# Altium footprint library COM-MAIN.PcbLib: 5 footprints
Each footprint in its own frame and in the unit in brackets; x right, y up, seen from the top. Pads: shape width x height; smd on the part's side, far side on the other; paste and mask are expansions set on the pad; w line width, h text height; cw(c..) or ccw(c..) is an arc to the next point about the centre after c.
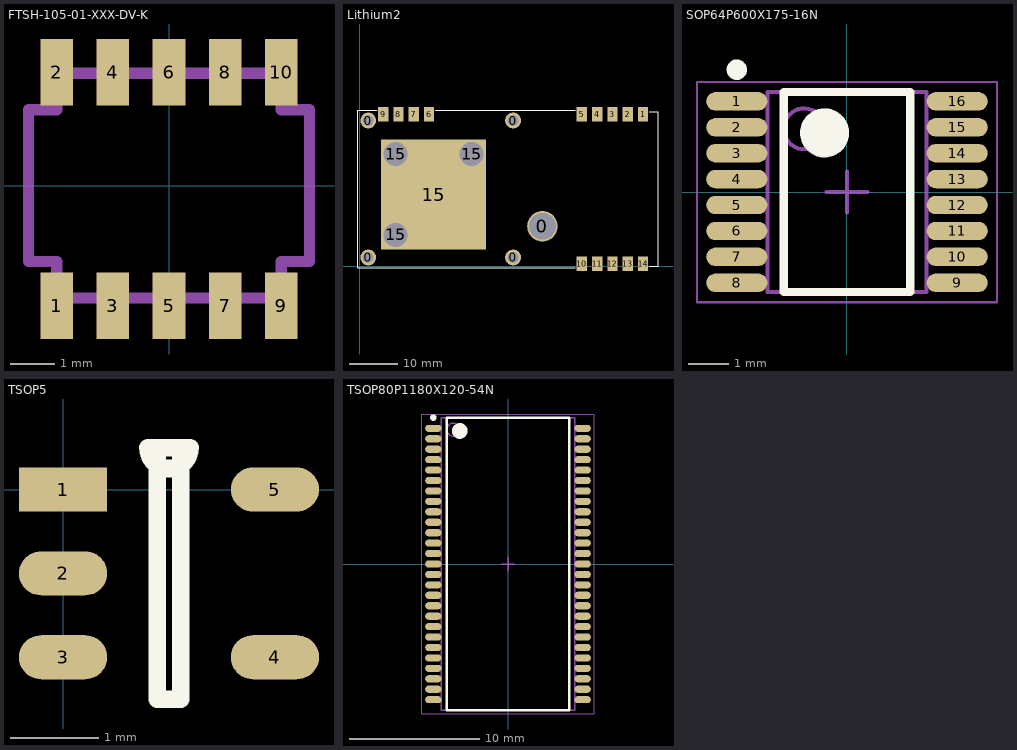
[diagram p0: the footprints below, top view; thin cyan lines are the x and y axes]

## FTSH-105-01-XXX-DV-K [mil]
pads (10):
  rect 29x59.06 smd mask+2: 1(-100,-107) 2(-100,101) 3(-50,-107) 4(-50,101) 5(0,-107) 6(0,101) 7(50,-107) 8(50,101) 9(100,-107) 10(100,101)
Mechanical 1:
  lines w10: -125,-67.5 -100,-67.5 -100,-100 100,-100 100,-67.5 125,-67.5 125,67.5 100,67.5 100,100 -100,100 -100,67.5 -125,67.5 -125,-67.5
  text "J1" at -17.14,-17.5 h25
3D body "FTSH-105-01-F-DV-K.stp": height 241, standoff 0, extent -125,-118 125,112

## Lithium2 [mil]
pads (23):
  round 130 hole 90: 0(70,70) 0(70,1190) 0(1255,70) 0(1255,1190)
  round 250 hole 220 unplated: 0(1495,325)
  rect 85x120 smd: 1(2317.5,1240) 2(2192.5,1240) 3(2067.5,1240) 4(1942.5,1240) 5(1817.5,1240) 6(567.5,1240) 7(442.5,1240) 8(317.5,1240) 9(192.5,1240) 10(1817.5,20) 11(1942.5,20) 12(2067.5,20) 13(2192.5,20) 14(2317.5,20)
  round 215 hole 196: 15(295,255) 15(295,915) 15(915,915)
  rect 860x900 smd: 15(605,585)
Top Overlay:
  lines w10: 140,1273.16 -13.44,1273.16 -13.44,-16 1765,-16 ; 620,1272.16 1765,1272.16 ; 2370,0 2440,0 2440,1260 2370,1260
3D body "Li-2 Radio.STEP": height 422, standoff 0, extent -4.85,-0.59 2435.15,1261.41

## SOP64P600X175-16N [mm] "SOP, 16-Leads, Body 4.89x3.90mm, Pitch 0.64mm, IPC Medium Density"
height 1.75
pads (16):
  oval 1.5x0.45 smd: 1(-2.7,2.222) 2(-2.7,1.587) 3(-2.7,0.953) 4(-2.7,0.318) 5(-2.7,-0.318) 6(-2.7,-0.953) 7(-2.7,-1.587) 8(-2.7,-2.222) 9(2.7,-2.222) 10(2.7,-1.587) 11(2.7,-0.953) 12(2.7,-0.318) 13(2.7,0.318) 14(2.7,0.953) 15(2.7,1.587) 16(2.7,2.222)
Top Overlay:
  circle w0.25: c-2.7,2.997 r0.125
  circle w0.6: c-0.55,1.45 r0.3
  lines w0.2: -1.55,-2.45 -1.55,2.45 1.55,2.45 1.55,-2.45 -1.55,-2.45
Mechanical 13:
  circle w0.1: c-1.05,1.55 r0.5
  lines w0.1: -1.95,-2.45 -1.95,2.45 1.95,2.45 1.95,-2.45 -1.95,-2.45
Mechanical 15:
  lines w0.05: -3.675,-2.7 -3.675,2.7 3.675,2.7 3.675,-2.7 -3.675,-2.7
  lines w0.1: -0.5,0 0.5,0 ; 0,-0.5 0,0.5
3D body: height 1.75, standoff 0.25, extent -1.95,-2.45 1.95,2.45

## TSOP5 [mm]
pads (5):
  rect 1x0.5 smd: 1(0,0)
  oval 1x0.5 smd: 2(0,-0.95) 3(0,-1.9) 4(2.4,-1.9) 5(2.4,0)
Top Overlay:
  lines w0.2: 0.962,0.475 ccw(c1.2,0.475) 1.438,0.475 1.065,0.475 1.065,-2.375 1.335,-2.375 1.335,0.475 0.962,0.475

## TSOP80P1180X120-54N [mm] "TSOP, 54-Leads, Body 22.42x10.16mm, Pitch 0.80mm, IPC Medium Density"
height 1.2
pads (54):
  oval 1.25x0.55 smd: 1(-5.725,10.4) 2(-5.725,9.6) 3(-5.725,8.8) 4(-5.725,8) 5(-5.725,7.2) 6(-5.725,6.4) 7(-5.725,5.6) 8(-5.725,4.8) 9(-5.725,4) 10(-5.725,3.2) 11(-5.725,2.4) 12(-5.725,1.6) 13(-5.725,0.8) 14(-5.725,0) 15(-5.725,-0.8) 16(-5.725,-1.6) 17(-5.725,-2.4) 18(-5.725,-3.2) 19(-5.725,-4) 20(-5.725,-4.8) 21(-5.725,-5.6) 22(-5.725,-6.4) 23(-5.725,-7.2) 24(-5.725,-8) 25(-5.725,-8.8) 26(-5.725,-9.6) 27(-5.725,-10.4) 28(5.725,-10.4) 29(5.725,-9.6) 30(5.725,-8.8) 31(5.725,-8) 32(5.725,-7.2) 33(5.725,-6.4) 34(5.725,-5.6) 35(5.725,-4.8) 36(5.725,-4) 37(5.725,-3.2) 38(5.725,-2.4) 39(5.725,-1.6) 40(5.725,-0.8) 41(5.725,0) 42(5.725,0.8) 43(5.725,1.6) 44(5.725,2.4) 45(5.725,3.2) 46(5.725,4) 47(5.725,4.8) 48(5.725,5.6) 49(5.725,6.4) 50(5.725,7.2) 51(5.725,8) 52(5.725,8.8) 53(5.725,9.6) 54(5.725,10.4)
Top Overlay:
  circle w0.25: c-5.725,11.225 r0.125
  circle w0.6: c-3.7,10.2 r0.3
  lines w0.2: -4.7,-11.2 -4.7,11.2 4.7,11.2 4.7,-11.2 -4.7,-11.2
Mechanical 13:
  circle w0.1: c-4.2,10.3 r0.5
  lines w0.1: -5.1,-11.2 -5.1,11.2 5.1,11.2 5.1,-11.2 -5.1,-11.2
Mechanical 15:
  lines w0.05: -6.6,-11.5 -6.6,11.5 6.6,11.5 6.6,-11.5 -6.6,-11.5
  lines w0.1: -0.5,0 0.5,0 ; 0,-0.5 0,0.5
3D body: height 1.2, standoff 0.15, extent -5.1,-11.2 5.1,11.2